# EAGLE library part 613036216921 (library Wurth_Elektronik_Electromechanic_Board_to_Board_Connectors_rev16a)
WR-PHD 2.54mm Dual S. Header Bottom Entry Large, 36 Pins =>Code : Con_BTB_SHD_2.54_2_613036216921 <http://katalog.we-online.de/media/images/eican/Con_BTB_SHD_2.54_2_6130xx216921_pf2.jpg> Details see: http://katalog.we-online.de/en/em/613_0xx_216_921 Created 2014-05-30, Karrer Zheng 2014 (C) Würth Elektronik
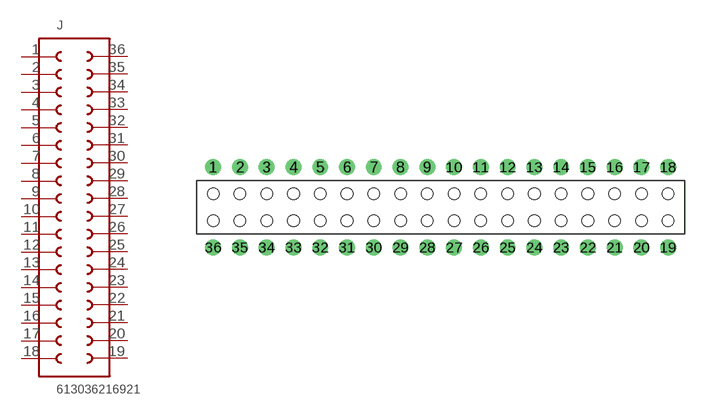
[diagram p182: symbol with the pads of 613036216921; footprint 613036216921]

Designator prefix J

## 613036216921  [613036216921]
1  1  pas
2  2  pas
3  3  pas
4  4  pas
5  5  pas
6  6  pas
7  7  pas
8  8  pas
9  9  pas
10  10  pas
11  11  pas
12  12  pas
13  13  pas
14  14  pas
15  15  pas
16  16  pas
17  17  pas
18  18  pas
19  19  pas
20  20  pas
21  21  pas
22  22  pas
23  23  pas
24  24  pas
25  25  pas
26  26  pas
27  27  pas
28  28  pas
29  29  pas
30  30  pas
31  31  pas
32  32  pas
33  33  pas
34  34  pas
35  35  pas
36  36  pas

## Footprint 613036216921 (pad centres in mm)
WR-PHD 2.54mm Dual S. Header Bottom Entry Large, 36 Pins
drill 1: 1 -21.59,3.81; 2 -19.05,3.81; 3 -16.51,3.81; 4 -13.97,3.81; 5 -11.43,3.81; 6 -8.89,3.81; 7 -6.35,3.81; 8 -3.81,3.81; 9 -1.27,3.81; 10 1.27,3.81; 11 3.81,3.81; 12 6.35,3.81; 13 8.89,3.81; 14 11.43,3.81; 15 13.97,3.81; 16 16.51,3.81; 17 19.05,3.81; 18 21.59,3.81; 19 21.59,-3.81; 20 19.05,-3.81; 21 16.51,-3.81; 22 13.97,-3.81; 23 11.43,-3.81; 24 8.89,-3.81; 25 6.35,-3.81; 26 3.81,-3.81; 27 1.27,-3.81; 28 -1.27,-3.81; 29 -3.81,-3.81; 30 -6.35,-3.81; 31 -8.89,-3.81; 32 -11.43,-3.81; 33 -13.97,-3.81; 34 -16.51,-3.81; 35 -19.05,-3.81; 36 -21.59,-3.81
hole 1.1 at -21.59,1.27
hole 1.1 at -19.05,1.27
hole 1.1 at -16.51,1.27
hole 1.1 at -13.97,1.27
hole 1.1 at -11.43,1.27
hole 1.1 at -8.89,1.27
hole 1.1 at -6.35,1.27
hole 1.1 at -3.81,1.27
hole 1.1 at -1.27,1.27
hole 1.1 at 1.27,1.27
hole 1.1 at 3.81,1.27
hole 1.1 at 6.35,1.27
hole 1.1 at 8.89,1.27
hole 1.1 at 11.43,1.27
hole 1.1 at 13.97,1.27
hole 1.1 at 16.51,1.27
hole 1.1 at 19.05,1.27
hole 1.1 at 21.59,1.27
hole 1.1 at 21.59,-1.27
hole 1.1 at 19.05,-1.27
hole 1.1 at 16.51,-1.27
hole 1.1 at 13.97,-1.27
hole 1.1 at 11.43,-1.27
hole 1.1 at 8.89,-1.27
hole 1.1 at 6.35,-1.27
hole 1.1 at 3.81,-1.27
hole 1.1 at 1.27,-1.27
hole 1.1 at -1.27,-1.27
hole 1.1 at -3.81,-1.27
hole 1.1 at -6.35,-1.27
hole 1.1 at -8.89,-1.27
hole 1.1 at -11.43,-1.27
hole 1.1 at -13.97,-1.27
hole 1.1 at -16.51,-1.27
hole 1.1 at -19.05,-1.27
hole 1.1 at -21.59,-1.27